# EAGLE library part TLC5916 (library hmcfabstudio)
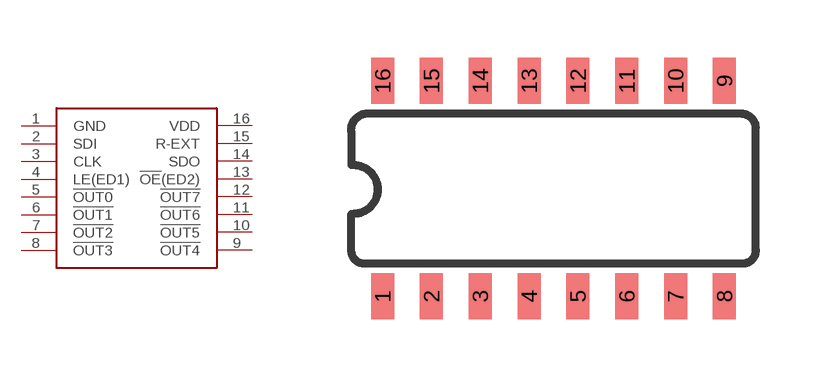
[diagram p16: symbol with the pads of SO016; footprint SO016]

Designator prefix -

## TLC5916  [SO016]
1  GND
2  SDI
3  CLK
4  LE(ED1)
5  !OUT0
6  !OUT1
7  !OUT2
8  !OUT3
9  !OUT4
10  !OUT5
11  !OUT6
12  !OUT7
13  !OE!(ED2)
14  SDO
15  R-EXT
16  VDD

## Footprint SO016 (pad centres in mm)
smd 0.6 x 1.2: 1 -4.445,-2.8; 2 -3.175,-2.8; 3 -1.905,-2.8; 4 -0.635,-2.8; 5 0.635,-2.8; 6 1.905,-2.8; 7 3.175,-2.8; 8 4.445,-2.8; 9 4.445,2.8; 10 3.175,2.8; 11 1.905,2.8; 12 0.635,2.8; 13 -0.635,2.8; 14 -1.905,2.8; 15 -3.175,2.8; 16 -4.445,2.8